# Altium footprint library RFID_CC1101_433MHz.PcbLib: 207 footprints (part 10 of 13)
Each footprint in its own frame and in the unit in brackets; x right, y up, seen from the top. Pads: shape width x height; smd on the part's side, far side on the other; paste and mask are expansions set on the pad; w line width, h text height; cw(c..) or ccw(c..) is an arc to the next point about the centre after c.
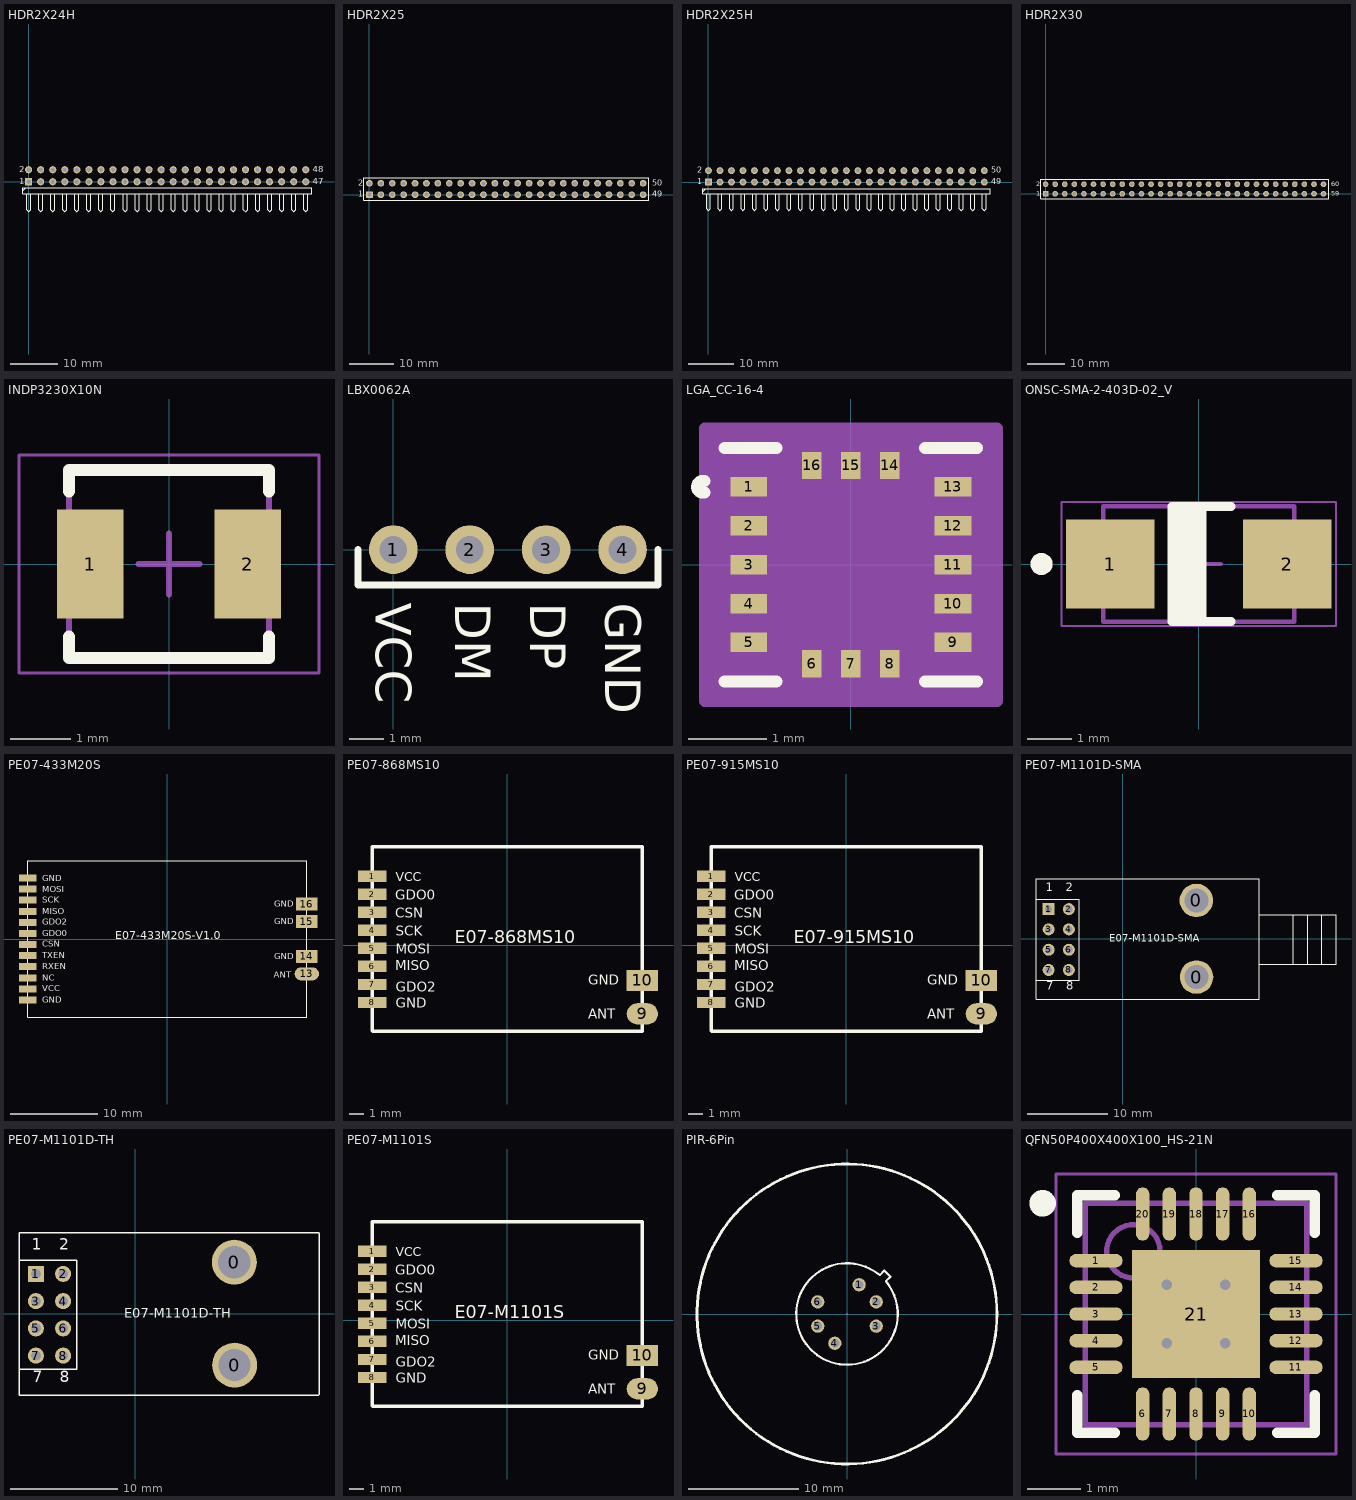
[diagram p9: the footprints below, top view; thin cyan lines are the x and y axes]

## HDR2X24H [mm] "Connector; Header; 24x2 Position; Right Angle"
pads (48):
  rect 1.5x1.5 hole 0.9: 1(0,0)
  round 1.5 hole 0.9: 2(0,2.54) 3(2.54,0) 4(2.54,2.54) 5(5.08,0) 6(5.08,2.54) 7(7.62,0) 8(7.62,2.54) 9(10.16,0) 10(10.16,2.54) 11(12.7,0) 12(12.7,2.54) 13(15.24,0) 14(15.24,2.54) 15(17.78,0) 16(17.78,2.54) 17(20.32,0) 18(20.32,2.54) 19(22.86,0) 20(22.86,2.54) 21(25.4,0) 22(25.4,2.54) 23(27.94,0) 24(27.94,2.54) 25(30.48,0) 26(30.48,2.54) 27(33.02,0) 28(33.02,2.54) 29(35.56,0) 30(35.56,2.54) 31(38.1,0) 32(38.1,2.54) 33(40.64,0) 34(40.64,2.54) 35(43.18,0) 36(43.18,2.54) 37(45.72,0) 38(45.72,2.54) 39(48.26,0) 40(48.26,2.54) 41(50.8,0) 42(50.8,2.54) 43(53.34,0) 44(53.34,2.54) 45(55.88,0) 46(55.88,2.54) 47(58.42,0) 48(58.42,2.54)
Top Overlay:
  lines w0.2: -1.27,-1.905 -0.635,-1.27 ; -0.423,-2.54 -0.423,-5.927 0,-6.35 0.423,-5.927 0.423,-2.54 ; 2.117,-2.54 2.117,-5.927 2.54,-6.35 2.963,-5.927 2.963,-2.54 ; 4.657,-2.54 4.657,-5.927 5.08,-6.35 5.503,-5.927 5.503,-2.54 ; 7.197,-2.54 7.197,-5.927 7.62,-6.35 8.043,-5.927 8.043,-2.54 ; 9.737,-2.54 9.737,-5.927 10.16,-6.35 10.583,-5.927 10.583,-2.54 ; 12.277,-2.54 12.277,-5.927 12.7,-6.35 13.123,-5.927 13.123,-2.54 ; 14.817,-2.54 14.817,-5.927 15.24,-6.35 15.663,-5.927 15.663,-2.54 ; 17.357,-2.54 17.357,-5.927 17.78,-6.35 18.203,-5.927 18.203,-2.54 ; 19.897,-2.54 19.897,-5.927 20.32,-6.35 20.743,-5.927 20.743,-2.54 ; 22.437,-2.54 22.437,-5.927 22.86,-6.35 23.283,-5.927 23.283,-2.54 ; 24.977,-2.54 24.977,-5.927 25.4,-6.35 25.823,-5.927 25.823,-2.54 ; 27.517,-2.54 27.517,-5.927 27.94,-6.35 28.363,-5.927 28.363,-2.54 ; 30.057,-2.54 30.057,-5.927 30.48,-6.35 30.903,-5.927 30.903,-2.54 ; 32.597,-2.54 32.597,-5.927 33.02,-6.35 33.443,-5.927 33.443,-2.54 ; 35.137,-2.54 35.137,-5.927 35.56,-6.35 35.983,-5.927 35.983,-2.54 ; 37.677,-2.54 37.677,-5.927 38.1,-6.35 38.523,-5.927 38.523,-2.54 ; 40.217,-2.54 40.217,-5.927 40.64,-6.35 41.063,-5.927 41.063,-2.54 ; 42.757,-2.54 42.757,-5.927 43.18,-6.35 43.603,-5.927 43.603,-2.54 ; 45.297,-2.54 45.297,-5.927 45.72,-6.35 46.143,-5.927 46.143,-2.54 ; 47.837,-2.54 47.837,-5.927 48.26,-6.35 48.683,-5.927 48.683,-2.54 ; 50.377,-2.54 50.377,-5.927 50.8,-6.35 51.223,-5.927 51.223,-2.54 ; 52.917,-2.54 52.917,-5.927 53.34,-6.35 53.763,-5.927 53.763,-2.54 ; 55.457,-2.54 55.457,-5.927 55.88,-6.35 56.303,-5.927 56.303,-2.54 ; 57.997,-2.54 57.997,-5.927 58.42,-6.35 58.843,-5.927 58.843,-2.54 ; -1.27,-2.54 59.69,-2.54 59.69,-1.27 -1.27,-1.27 -1.27,-2.54
  text "2" at -2.032,2.032 h1.27
  text "1" at -2.032,-0.508 h1.27
  text "47" at 59.944,-0.508 h1.27
  text "48" at 59.944,2.032 h1.27

## HDR2X25 [mm] "Connector; Header; 25x2 Position"
pads (50):
  rect 1.5x1.5 hole 0.9: 1(0,0)
  round 1.5 hole 0.9: 2(0,2.54) 3(2.54,0) 4(2.54,2.54) 5(5.08,0) 6(5.08,2.54) 7(7.62,0) 8(7.62,2.54) 9(10.16,0) 10(10.16,2.54) 11(12.7,0) 12(12.7,2.54) 13(15.24,0) 14(15.24,2.54) 15(17.78,0) 16(17.78,2.54) 17(20.32,0) 18(20.32,2.54) 19(22.86,0) 20(22.86,2.54) 21(25.4,0) 22(25.4,2.54) 23(27.94,0) 24(27.94,2.54) 25(30.48,0) 26(30.48,2.54) 27(33.02,0) 28(33.02,2.54) 29(35.56,0) 30(35.56,2.54) 31(38.1,0) 32(38.1,2.54) 33(40.64,0) 34(40.64,2.54) 35(43.18,0) 36(43.18,2.54) 37(45.72,0) 38(45.72,2.54) 39(48.26,0) 40(48.26,2.54) 41(50.8,0) 42(50.8,2.54) 43(53.34,0) 44(53.34,2.54) 45(55.88,0) 46(55.88,2.54) 47(58.42,0) 48(58.42,2.54) 49(60.96,0) 50(60.96,2.54)
Top Overlay:
  lines w0.2: -1.27,-1.27 62.23,-1.27 62.23,3.81 -1.27,3.81 -1.27,-1.27
  text "50" at 62.992,2.032 h1.27
  text "49" at 62.992,-0.508 h1.27
  text "1" at -2.54,-0.508 h1.27
  text "2" at -2.54,2.032 h1.27

## HDR2X25H [mm] "Connector; Header; 25x2 Position; Right Angle"
pads (50):
  rect 1.5x1.5 hole 0.9: 1(0,0)
  round 1.5 hole 0.9: 2(0,2.54) 3(2.54,0) 4(2.54,2.54) 5(5.08,0) 6(5.08,2.54) 7(7.62,0) 8(7.62,2.54) 9(10.16,0) 10(10.16,2.54) 11(12.7,0) 12(12.7,2.54) 13(15.24,0) 14(15.24,2.54) 15(17.78,0) 16(17.78,2.54) 17(20.32,0) 18(20.32,2.54) 19(22.86,0) 20(22.86,2.54) 21(25.4,0) 22(25.4,2.54) 23(27.94,0) 24(27.94,2.54) 25(30.48,0) 26(30.48,2.54) 27(33.02,0) 28(33.02,2.54) 29(35.56,0) 30(35.56,2.54) 31(38.1,0) 32(38.1,2.54) 33(40.64,0) 34(40.64,2.54) 35(43.18,0) 36(43.18,2.54) 37(45.72,0) 38(45.72,2.54) 39(48.26,0) 40(48.26,2.54) 41(50.8,0) 42(50.8,2.54) 43(53.34,0) 44(53.34,2.54) 45(55.88,0) 46(55.88,2.54) 47(58.42,0) 48(58.42,2.54) 49(60.96,0) 50(60.96,2.54)
Top Overlay:
  lines w0.2: -1.27,-2.117 -0.635,-1.482 ; -0.423,-2.54 -0.423,-5.927 0,-6.35 0.423,-5.927 0.423,-2.54 ; 2.117,-2.54 2.117,-5.927 2.54,-6.35 2.963,-5.927 2.963,-2.54 ; 4.657,-2.54 4.657,-5.927 5.08,-6.35 5.503,-5.927 5.503,-2.54 ; 7.197,-2.54 7.197,-5.927 7.62,-6.35 8.043,-5.927 8.043,-2.54 ; 9.737,-2.54 9.737,-5.927 10.16,-6.35 10.583,-5.927 10.583,-2.54 ; 12.277,-2.54 12.277,-5.927 12.7,-6.35 13.123,-5.927 13.123,-2.54 ; 14.817,-2.54 14.817,-5.927 15.24,-6.35 15.663,-5.927 15.663,-2.54 ; 17.357,-2.54 17.357,-5.927 17.78,-6.35 18.203,-5.927 18.203,-2.54 ; 19.897,-2.54 19.897,-5.927 20.32,-6.35 20.743,-5.927 20.743,-2.54 ; 22.437,-2.54 22.437,-5.927 22.86,-6.35 23.283,-5.927 23.283,-2.54 ; 24.977,-2.54 24.977,-5.927 25.4,-6.35 25.823,-5.927 25.823,-2.54 ; 27.517,-2.54 27.517,-5.927 27.94,-6.35 28.363,-5.927 28.363,-2.54 ; 30.057,-2.54 30.057,-5.927 30.48,-6.35 30.903,-5.927 30.903,-2.54 ; 32.597,-2.54 32.597,-5.927 33.02,-6.35 33.443,-5.927 33.443,-2.54 ; 35.137,-2.54 35.137,-5.927 35.56,-6.35 35.983,-5.927 35.983,-2.54 ; 37.677,-2.54 37.677,-5.927 38.1,-6.35 38.523,-5.927 38.523,-2.54 ; 40.217,-2.54 40.217,-5.927 40.64,-6.35 41.063,-5.927 41.063,-2.54 ; 42.757,-2.54 42.757,-5.927 43.18,-6.35 43.603,-5.927 43.603,-2.54 ; 45.297,-2.54 45.297,-5.927 45.72,-6.35 46.143,-5.927 46.143,-2.54 ; 47.837,-2.54 47.837,-5.927 48.26,-6.35 48.683,-5.927 48.683,-2.54 ; 50.377,-2.54 50.377,-5.927 50.8,-6.35 51.223,-5.927 51.223,-2.54 ; 52.917,-2.54 52.917,-5.927 53.34,-6.35 53.763,-5.927 53.763,-2.54 ; 55.457,-2.54 55.457,-5.927 55.88,-6.35 56.303,-5.927 56.303,-2.54 ; 57.997,-2.54 57.997,-5.927 58.42,-6.35 58.843,-5.927 58.843,-2.54 ; 60.537,-2.54 60.537,-5.927 60.96,-6.35 61.383,-5.927 61.383,-2.54 ; -1.27,-2.54 62.23,-2.54 62.23,-1.482 -1.27,-1.482 -1.27,-2.54
  text "50" at 62.484,2.032 h1.27
  text "49" at 62.484,-0.508 h1.27
  text "1" at -2.54,-0.508 h1.27
  text "2" at -2.54,2.032 h1.27

## HDR2X30 [mm] "Connector; Header; 30x2 Position"
pads (60):
  rect 1.5x1.5 hole 0.9: 1(0,0)
  round 1.5 hole 0.9: 2(0,2.54) 3(2.54,0) 4(2.54,2.54) 5(5.08,0) 6(5.08,2.54) 7(7.62,0) 8(7.62,2.54) 9(10.16,0) 10(10.16,2.54) 11(12.7,0) 12(12.7,2.54) 13(15.24,0) 14(15.24,2.54) 15(17.78,0) 16(17.78,2.54) 17(20.32,0) 18(20.32,2.54) 19(22.86,0) 20(22.86,2.54) 21(25.4,0) 22(25.4,2.54) 23(27.94,0) 24(27.94,2.54) 25(30.48,0) 26(30.48,2.54) 27(33.02,0) 28(33.02,2.54) 29(35.56,0) 30(35.56,2.54) 31(38.1,0) 32(38.1,2.54) 33(40.64,0) 34(40.64,2.54) 35(43.18,0) 36(43.18,2.54) 37(45.72,0) 38(45.72,2.54) 39(48.26,0) 40(48.26,2.54) 41(50.8,0) 42(50.8,2.54) 43(53.34,0) 44(53.34,2.54) 45(55.88,0) 46(55.88,2.54) 47(58.42,0) 48(58.42,2.54) 49(60.96,0) 50(60.96,2.54) 51(63.5,0) 52(63.5,2.54) 53(66.04,0) 54(66.04,2.54) 55(68.58,0) 56(68.58,2.54) 57(71.12,0) 58(71.12,2.54) 59(73.66,0) 60(73.66,2.54)
Top Overlay:
  lines w0.2: -1.27,-1.27 75.06,-1.27 75.06,3.81 -1.27,3.81 -1.27,-1.27
  text "60" at 75.692,2.032 h1.27
  text "59" at 75.692,-0.508 h1.27
  text "1" at -2.54,-0.508 h1.27
  text "2" at -2.54,2.032 h1.27
Bottom Overlay:
  text "1" at -55.88,-0.508 h1.27

## INDP3230X10N [mm] "Precision Wire Wound Inductor, 2-Leads, Body 3.20x3.00mm, IPC Medium Density, For SPM3010T-2R2M-LR"
height 1
pads (2):
  rect 1.1x1.8 smd: 1(-1.3,0) 2(1.3,0)
Top Overlay:
  lines w0.2: -1.65,-1.2 -1.65,-1.55 1.65,-1.55 1.65,-1.2 ; -1.65,1.2 -1.65,1.55 1.65,1.55 1.65,1.2
Assembly Top:
  lines w0.1: -1.65,-1.55 1.65,-1.55 1.65,1.55 -1.65,1.55 -1.65,-1.55
Courtyard Top:
  lines w0.05: -2.475,-1.8 2.475,-1.8 2.475,1.8 -2.475,1.8 -2.475,-1.8
  lines w0.1: -0.5,0 0.5,0 ; 0,-0.5 0,0.5
3D body "INDP3230X10N.step": height 1.1, standoff 0, extent -1.7,-1.5 1.7,1.5

## LBX0062A [mm] "PogoPin; Connector; 4 Position"
pads (4):
  round 1.4 hole 0.8: 1(0,0) 2(2.2,0) 3(4.4,0) 4(6.6,0)
Top Overlay:
  lines w0.2: -1.016,0 -1.016,-1.016 7.62,-1.016 7.62,0
  text "VCC" at -0.508,-1.524 h1.02
  text "DM" at 1.778,-1.524 h1.02
  text "DP" at 3.937,-1.524 h1.02
  text "GND" at 6.096,-1.524 h1.02

## LGA_CC-16-4 [mm]
pads (16):
  rect 0.475x0.25 smd: 1(-1.313,1) 2(-1.313,0.5) 3(-1.313,0) 4(-1.313,-0.5) 5(-1.313,-1) 9(1.313,-1) 10(1.313,-0.5) 11(1.313,0) 12(1.313,0.5) 13(1.313,1)
  rect 0.25x0.35 smd: 6(-0.5,-1.275) 7(0,-1.275) 8(0.5,-1.275) 14(0.5,1.275) 15(0,1.275) 16(-0.5,1.275)
Top Overlay:
  lines w0.152: -1.883,0.926 cw(c-1.902,1) -1.883,1.074 ; -1.625,-1.5 -0.954,-1.5 ; -1.625,1.5 -0.954,1.5 ; 0.954,-1.5 1.625,-1.5 ; 0.954,1.5 1.625,1.5
Mechanical 13:
  circle w0: c-1.902,1 r0.076
  lines w0: -0.271,1.5 ccw(c0,1.5) 0.271,1.5
Mechanical 15:
  region: 1.879,-1.754 -1.879,-1.754 -1.879,1.754 1.879,1.754
  lines w0.152: -1.879,-1.754 -1.879,1.754 1.879,1.754 1.879,-1.754 -1.879,-1.754
3D body: height 0.25, standoff 0, extent 0,0 0.254,0.254

## ONSC-SMA-2-403D-02_V [mm] "Molded, 2-Leads, Body 4.57x2.92mm"
height 2.2
pads (2):
  rect 2x2 smd: 1(-2,0) 2(2,0)
Top Overlay:
  circle w0.25: c-3.55,0 r0.125
  rectangle: -0.6,-1.3 0.178,1.3
  lines w0.2: 0.735,-1.3 -0.6,-1.3 -0.6,1.3 0.735,1.3
Mechanical 13:
  lines w0.1: -2.16,-1.3 2.16,-1.3 2.16,1.3 -2.16,1.3 -2.16,-1.3
Mechanical 15:
  lines w0.05: -3.1,-1.4 -3.1,1.4 3.1,1.4 3.1,-1.4 -3.1,-1.4
  lines w0.1: -0.5,0 0.5,0 ; 0,-0.5 0,0.5
3D body: height 2.2, standoff 0.05, extent -2.16,-1.3 2.16,1.3

## PE07-433M20S [mm] "32mm*18mm*3.0mm-S"
pads (16):
  rect 2x0.8 smd: 1(-16,6.985) 2(-16,5.715) 3(-16,4.445) 4(-16,3.175) 5(-16,1.905) 6(-16,0.635) 7(-16,-0.635) 8(-16,-1.905) 9(-16,-3.175) 10(-16,-4.445) 11(-16,-5.715) 12(-16,-6.985)
  oval 2.8x1.5 smd: 13(16,-4)
  rect 2.5x1.5 smd: 14(16,-2) 15(16,2) 16(16,4)
Top Overlay:
  lines w0.127: -16,-9 16,-9 16,9 -16,9 -16,-9
  text "GND" at -14.33,6.63 h0.7
  text "MOSI" at -14.33,5.38 h0.7
  text "SCK" at -14.33,4.13 h0.7
  text "MISO" at -14.33,2.83 h0.7
  text "GDO2" at -14.33,1.63 h0.7
  text "GDO0" at -14.33,0.33 h0.7
  text "CSN" at -14.33,-0.87 h0.7
  text "TXEN" at -14.33,-2.22 h0.7
  text "RXEN" at -14.33,-3.47 h0.7
  text "NC" at -14.33,-4.77 h0.7
  text "VCC" at -14.33,-6.02 h0.7
  text "GND" at -14.33,-7.32 h0.7
  text "GND" at 12.28,3.72 h0.7
  text "GND" at 12.28,1.72 h0.7
  text "GND" at 12.29,-2.33 h0.7
  text "ANT" at 12.22,-4.44 h0.7
  text "E07-433M20S-V1.0" at -5.969,0 h0.9

## PE07-868MS10 [mm] "19mm*13mm*1.9mm-S"
pads (10):
  rect 2x0.8 smd: 1(-9.507,4.845) 2(-9.507,3.575) 3(-9.507,2.305) 4(-9.507,1.035) 5(-9.507,-0.235) 6(-9.507,-1.505) 7(-9.507,-2.775) 8(-9.507,-4.045)
  oval 2.2x1.5 smd: 9(9.507,-4.845)
  rect 2.2x1.5 smd: 10(9.507,-2.495)
Top Overlay:
  lines w0.254: -9.493,-6.044 -9.493,6.923 9.507,6.923 9.507,-6.077 -9.459,-6.077 -9.493,-6.044
  text "GND" at -7.853,-4.419 h0.7
  text "GDO2" at -7.853,-3.276 h0.7
  text "MISO" at -7.874,-1.778 h0.7
  text "MOSI" at -7.853,-0.609 h0.7
  text "SCK" at -7.853,0.661 h0.7
  text "CSN" at -7.874,1.905 h0.7
  text "GDO0" at -7.874,3.175 h0.7
  text "VCC" at -7.853,4.471 h0.65
  text "E07-868MS10" at -3.683,0.127 h0.9
  text "ANT" at 5.715,-5.207 h0.7
  text "GND" at 5.715,-2.794 h0.7

## PE07-915MS10 [mm] "19mm*13mm*1.9mm-S"
pads (10):
  rect 2x0.8 smd: 1(-9.507,4.845) 2(-9.507,3.575) 3(-9.507,2.305) 4(-9.507,1.035) 5(-9.507,-0.235) 6(-9.507,-1.505) 7(-9.507,-2.775) 8(-9.507,-4.045)
  oval 2.2x1.5 smd: 9(9.507,-4.845)
  rect 2.2x1.5 smd: 10(9.507,-2.495)
Top Overlay:
  lines w0.254: -9.493,-6.044 -9.459,-6.077 9.507,-6.077 9.507,6.923 -9.493,6.923 -9.493,-6.044
  text "GND" at 5.715,-2.794 h0.7
  text "ANT" at 5.715,-5.207 h0.7
  text "E07-915MS10" at -3.683,0.127 h0.9
  text "VCC" at -7.853,4.471 h0.65
  text "GDO0" at -7.874,3.175 h0.7
  text "CSN" at -7.874,1.905 h0.7
  text "SCK" at -7.853,0.661 h0.7
  text "MOSI" at -7.853,-0.609 h0.7
  text "MISO" at -7.874,-1.778 h0.7
  text "GDO2" at -7.853,-3.276 h0.7
  text "GND" at -7.853,-4.419 h0.7

## PE07-M1101D-SMA [mm] "39.6mm*15mm-D"
pads (10):
  round 4.2 hole 3: 0(9.236,4.799) 0(9.265,-4.799)
  rect 1.5x1.5 hole 0.9: 1(-9.264,3.704)
  round 1.5 hole 0.9: 2(-6.724,3.704) 3(-9.264,1.164) 4(-6.724,1.164) 5(-9.264,-1.376) 6(-6.724,-1.376) 7(-9.264,-3.916) 8(-6.724,-3.916)
Top Overlay:
  lines w0.127: -10.843,-5.186 -5.454,-5.186 -5.454,4.974 -10.843,4.974 ; 17.101,-7.587 -10.843,-7.587 -10.843,7.522 17.101,7.522 ; 17.131,-7.546 17.131,7.522 ; 17.131,-3.187 26.731,-3.187 26.731,3.013 17.131,3.013 ; 21.397,-3.187 21.397,3.013 ; 23.175,-3.187 23.175,3.013 ; 24.953,-3.187 24.953,3.013
  text "E07-M1101D-SMA" at -1.651,-0.381 h0.9
  text "2" at -7.112,5.588 h1.8
  text "1" at -9.652,5.588 h1.8
  text "7" at -9.583,-6.773 h1.8
  text "8" at -7.043,-6.773 h1.8

## PE07-M1101D-TH [mm] "39.6mm*15mm-D/TH天线版本需要注意模块总长"
pads (10):
  round 4.2 hole 3: 0(9.236,4.799) 0(9.265,-4.799)
  rect 1.5x1.5 hole 0.9: 1(-9.264,3.704)
  round 1.5 hole 0.9: 2(-6.724,3.704) 3(-9.264,1.164) 4(-6.724,1.164) 5(-9.264,-1.376) 6(-6.724,-1.376) 7(-9.264,-3.916) 8(-6.724,-3.916)
Top Overlay:
  lines w0.127: -10.843,-5.186 -5.454,-5.186 -5.454,4.974 -10.843,4.974 ; 17.101,-7.587 -10.843,-7.587 -10.843,7.522 17.101,7.522 ; 17.131,-7.546 17.131,7.522
  text "2" at -7.112,5.588 h1.8
  text "1" at -9.652,5.588 h1.8
  text "7" at -9.583,-6.773 h1.8
  text "8" at -7.043,-6.773 h1.8
  text "E07-M1101D-TH" at -1.016,-0.381 h0.9

## PE07-M1101S [mm]
pads (10):
  rect 2x0.8 smd: 1(-9.507,4.845) 2(-9.507,3.575) 3(-9.507,2.305) 4(-9.507,1.035) 5(-9.507,-0.235) 6(-9.507,-1.505) 7(-9.507,-2.775) 8(-9.507,-4.045)
  oval 2.2x1.5 smd: 9(9.507,-4.845)
  rect 2.2x1.5 smd: 10(9.507,-2.495)
Top Overlay:
  lines w0.254: -9.493,-6.044 -9.459,-6.077 9.507,-6.077 9.507,6.923 -9.493,6.923 -9.493,-6.044
  text "GND" at 5.715,-2.794 h0.7
  text "ANT" at 5.715,-5.207 h0.7
  text "E07-M1101S" at -3.683,0.127 h0.9
  text "VCC" at -7.853,4.471 h0.65
  text "GDO0" at -7.874,3.175 h0.7
  text "CSN" at -7.874,1.905 h0.7
  text "SCK" at -7.853,0.661 h0.7
  text "MOSI" at -7.853,-0.609 h0.7
  text "MISO" at -7.874,-1.778 h0.7
  text "GDO2" at -7.853,-3.276 h0.7
  text "GND" at -7.853,-4.419 h0.7

## PIR-6Pin [mm] "PIR; BS612; 6 Position;SENBA"
height 4.4
pads (6):
  round 1.2 hole 0.8: 1(1.1,2.65) 2(2.65,1.1) 3(2.65,-1.1) 4(-1.1,-2.65) 5(-2.65,-1.1) 6(-2.65,1.1)
Top Overlay:
  circle w0.254: c0,0 r13.6
  lines w0.1: 0,0 0,0.025 ; 3.524,2.957 3.524,2.965 ; 3.374,3.941 3.374,3.941
  lines w0.2: 3.524,2.957 cw(c0,0) 2.957,3.524 3.374,3.941 3.937,3.378 3.524,2.965

## QFN50P400X400X100_HS-21N [mm] "QFN, 20-Leads, Body 4.00x4.00mm, Pitch 0.50mm, Thermal Pad 2.40x2.40mm, IPC Medium Density"
height 1
pads (21):
  oval 1x0.25 smd: 1(-1.875,1) 2(-1.875,0.5) 3(-1.875,0) 4(-1.875,-0.5) 5(-1.875,-1) 11(1.875,-1) 12(1.875,-0.5) 13(1.875,0) 14(1.875,0.5) 15(1.875,1)
  oval 0.25x1 smd: 6(-1,-1.875) 7(-0.5,-1.875) 8(0,-1.875) 9(0.5,-1.875) 10(1,-1.875) 16(1,1.875) 17(0.5,1.875) 18(0,1.875) 19(-0.5,1.875) 20(-1,1.875)
  rect 2.4x2.4 smd: 21(0,0)
via -0.55,0.55 diameter 0.5 hole 0.2
via 0.55,0.55 diameter 0.5 hole 0.2
via -0.55,-0.55 diameter 0.5 hole 0.2
via 0.55,-0.55 diameter 0.5 hole 0.2
Top Overlay:
  circle w0.25: c-2.875,2.075 r0.125
  lines w0.2: -2.225,-1.525 -2.225,-2.225 -1.525,-2.225 ; -2.225,1.525 -2.225,2.225 -1.525,2.225 ; 1.525,-2.225 2.225,-2.225 2.225,-1.525 ; 1.525,2.225 2.225,2.225 2.225,1.525
Assembly Top:
  circle w0.1: c-1.175,1.175 r0.5
  lines w0.1: -2.075,-2.075 -2.075,2.075 2.075,2.075 2.075,-2.075 -2.075,-2.075
Courtyard Top:
  lines w0.05: -2.625,-2.625 -2.625,2.625 2.625,2.625 2.625,-2.625 -2.625,-2.625
  lines w0.1: -0.5,0 0.5,0 ; 0,-0.5 0,0.5
3D body "QFN50P400X400X100_HS-21N.step": height 1, standoff 0, extent -2.076,-2.076 2.076,2.076